# Altium schematic symbol library PL5.0-36-130B.Schlib: 1 symbol
Pins are listed as number, name and electrical type; pins without a type are passive.

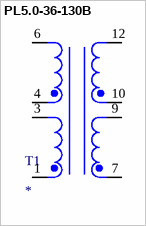
[diagram p0: symbol PL5.0-36-130B]

## PL5.0-36-130B
designator T1
120/240V Dual Primary, Dual Secondary Transformer
pins: 1 PRIMARY1, 3 PRIMARY2, 4 PRIMARY3, 6 PRIMARY4, 7 SECONDARY1, 9 SECONDARY2, 10 SECONDARY3, 12 SECONDARY4